# EAGLE library part IC_TOUCH_AT42QT1010 (library homemade-hardware)
AT42QT1010 <https://www.digikey.com/product-detail/en/microchip-technology/AT42QT1010-TSHR/AT42QT1010-TSHRDKR-ND/2268872> - Single Button Cap Touch Sensor
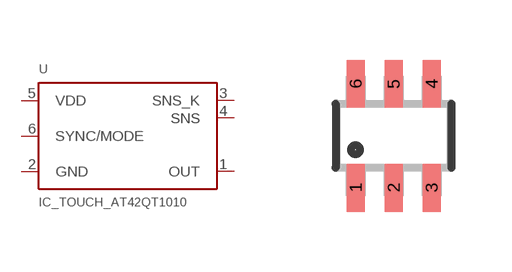
[diagram p20: symbol with the pads of SOT23-6; footprint SOT23-6]

Designator prefix U

## IC_TOUCH_AT42QT1010  [SOT23-6]
1  OUT  out
2  GND  pwr
3  SNS_K
4  SNS
5  VDD  pwr
6  SYNC/MODE  in

## Footprint SOT23-6 (pad centres in mm)
Small Outline Transistor - 6 Pin
smd 0.45 x 1.2: 1 -0.95,-1.3; 2 0,-1.3; 3 0.95,-1.3; 4 0.95,1.3; 5 0,1.3; 6 -0.95,1.3